# Altium footprint library MOLEX-43650-0200-2PIN.PcbLib: 1 footprints
Each footprint in its own frame and in the unit in brackets; x right, y up, seen from the top. Pads: shape width x height; smd on the part's side, far side on the other; paste and mask are expansions set on the pad; w line width, h text height; cw(c..) or ccw(c..) is an arc to the next point about the centre after c.
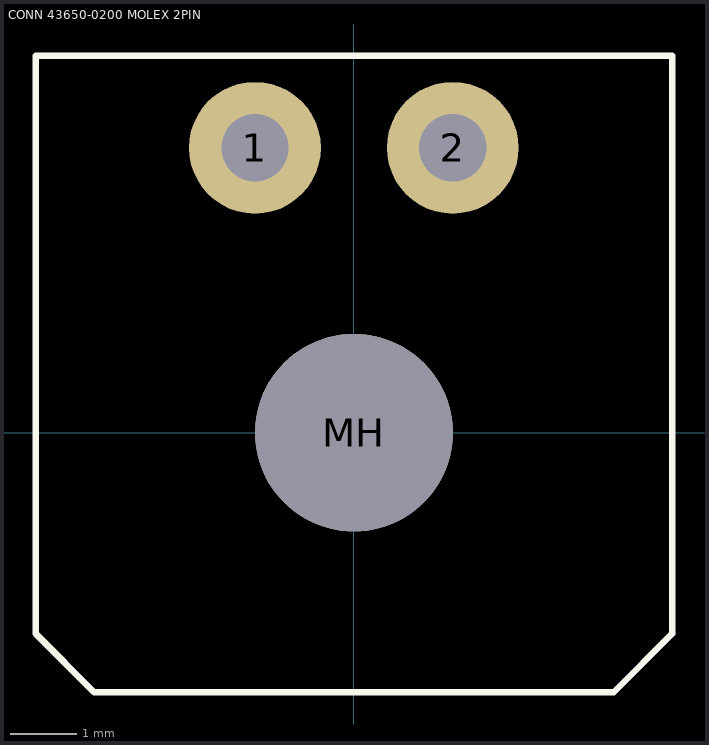
[diagram p0: the footprint, top view; thin cyan lines are the x and y axes]

## CONN 43650-0200 MOLEX 2PIN [mm] "MOLEX-43650-0200, 2PIN"
height 5.6
pads (3):
  round 2 hole 1.02: 1(-1.5,4.32) 2(1.5,4.32)
  round 3 hole 3 unplated: MH(0,0)
Top Overlay:
  lines w0.1: -4.822,-3.052 -4.822,5.715 4.826,5.715 4.826,-3.05 3.941,-3.935 -3.939,-3.935 -4.822,-3.052
3D body "436500200.stp": height 5.62, standoff -3.29, extent -4.825,-4.58 4.825,5.32